# EAGLE library part TPS62740DSS (library ICs)
360nA IQ Step Down Converter For Low Power Applications
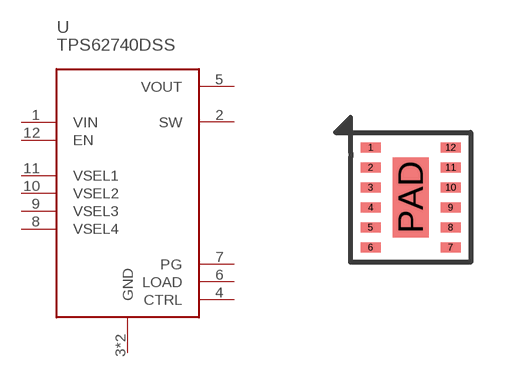
[diagram p234: symbol with the pads of WSON12; footprint WSON12]

Designator prefix U

## TPS62740DSS (DIGIKEY: 296-39459-1-ND; HEIGHT: 0.8; PRICE_PER: 1.43; VALUE: TPS62740)  [WSON12]
1  VIN
2  SW
3  GND
4  CTRL
5  VOUT
6  LOAD
7  PG
8  VSEL4
9  VSEL3
10  VSEL2
11  VSEL1
12  EN
PAD  GND

## Footprint WSON12 (pad centres in mm)
smd 0.5 x 0.25: 1 -1,1.25; 2 -1,0.75; 3 -1,0.25; 4 -1,-0.25; 5 -1,-0.75; 6 -1,-1.25; 7 1,-1.25; 8 1,-0.75; 9 1,-0.25; 10 1,0.25; 11 1,0.75; 12 1,1.25
smd 0.9 x 2: PAD 0,0